# Altium schematic symbol library led_7seg_big.SchLib: 17 symbols
Pins are listed as number, name and electrical type; pins without a type are passive.

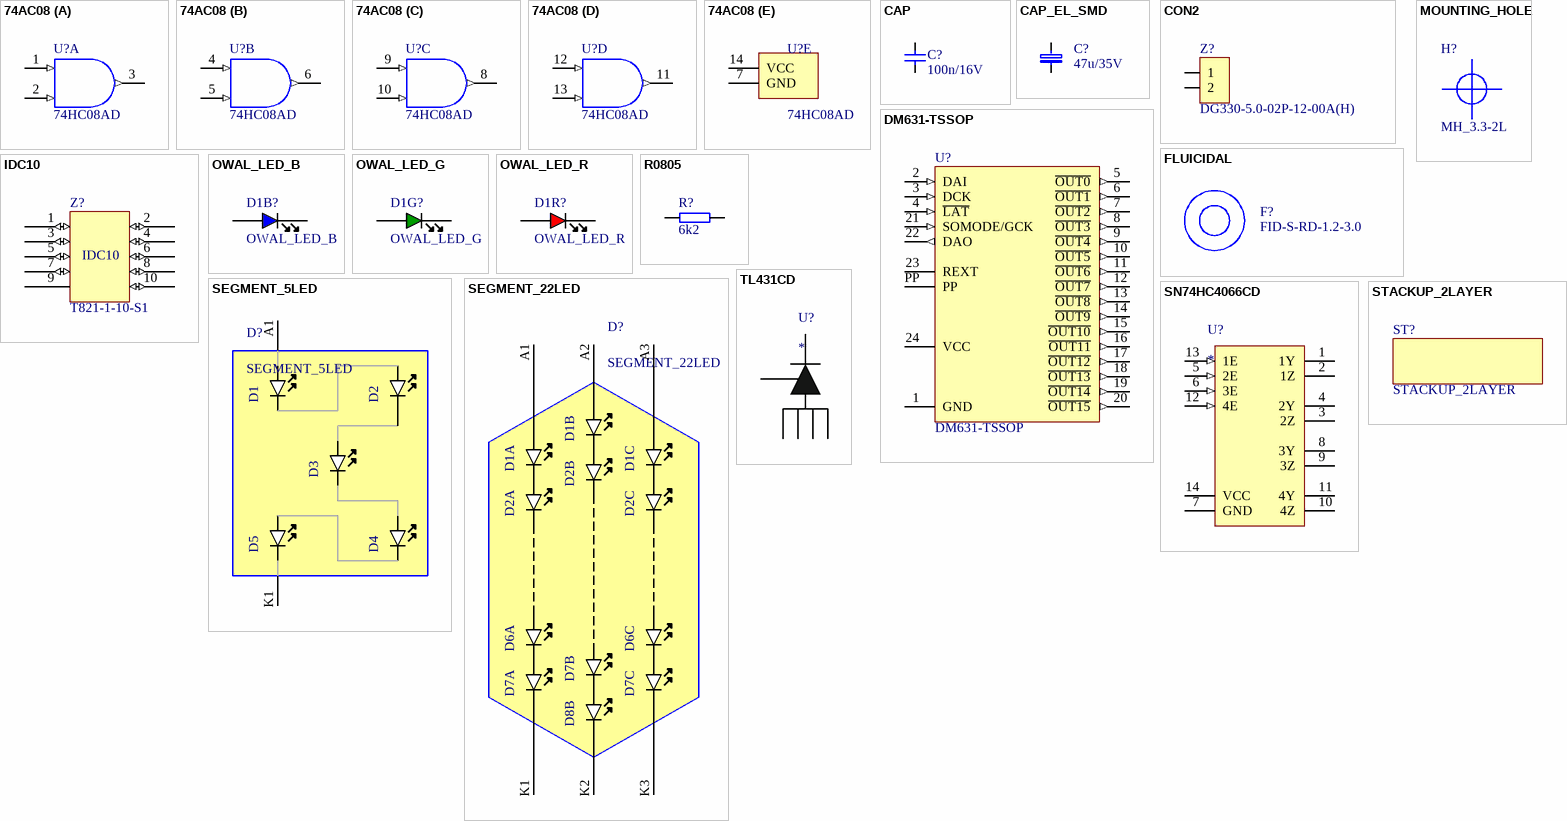
[diagram p0: symbols 74AC08 to TL431CD]

## 74AC08
designator U?, comment 74HC08AD
Quadruple 2-Input Positive-AND Gate
footprint SO14
part A pins: 1 A (in), 2 B (in), 3 Y (out)
part B pins: 4 A (in), 5 B (in), 6 Y (out)
part C pins: 8 Y (out), 9 A (in), 10 B (in)
part D pins: 11 Y (out), 12 A (in), 13 B (in)
part E pins: 7 GND (power), 14 VCC (power)
2 alternate drawings of the same symbol

## CAP
designator C?, comment 100n/16V
footprint 1206
footprint 0603
footprint 0603
footprint 0402
pins: 1, 2

## CAP_EL_SMD
designator C?, comment 47u/35V
Kondensator elektrolityczny 2.5x6.3x11
footprint CAP_V_8.0X12
footprint CAP_SMD_53
footprint CAP_SMD_63
footprint CAP_ESR_UNI
footprint CAP_V_6.3X11
pins: 1, 2

## CON2
designator Z?, comment DG330-5.0-02P-12-00A(H)
Connector
footprint SIP2
footprint WAGO2X2-5
pins: 1, 2

## DM631-TSSOP
designator U?
16-channel Constant Current LED Sink Driver
footprint TSSOP24-TP
pins: 1 GND (power), 2 DAI (in), 3 DCK (in), 4 ~{LAT} (in), 5 ~{OUT0} (out), 6 ~{OUT1} (out), 7 ~{OUT2} (out), 8 ~{OUT3} (out), 9 ~{OUT4} (out), 10 ~{OUT5} (out), 11 ~{OUT6} (out), 12 ~{OUT7} (out), 13 ~{OUT8} (out), 14 ~{OUT9} (out), 15 ~{OUT10} (out), 16 ~{OUT11} (out), 17 ~{OUT12} (out), 18 ~{OUT13} (out), 19 ~{OUT14} (out), 20 ~{OUT15} (out), 21 SOMODE/GCK (in), 22 DAO (out), 23 REXT, 24 VCC (power), PP (power)

## FLUICIDAL
designator F?, comment FID-S-RD-1.2-3.0
PCB FLUICIDAL
footprint FLUICIDAL_1.0-3.0-2L-RC
footprint FLUICIDAL_1.0-3.0-2L-RD
footprint FID-S-RD-1.2-3.0

## IDC10
designator Z?, comment T821-1-10-S1
footprint IDC10
footprint IDC10-WYRZUTNIK
footprint BH10S
pins: 1 (io), 2 (io), 3 (io), 4 (io), 5 (io), 6 (io), 7 (io), 8 (io), 9, 10 (io)

## MOUNTING_HOLE
designator H?, comment MH_3.3-2L
Mounting Hole
footprint MH_3.3-2L
footprint MH_3.2-2L

## OWAL_LED_B
designator D1B?
footprint LED_MTX
pins: A VDD, K LED_R

## OWAL_LED_G
designator D1G?
footprint LED_MTX
pins: A VDD, K LED_R

## OWAL_LED_R
designator D1R?
footprint LED_MTX
pins: A VDD, K LED_R

## R0805
designator R?, comment 6k2
footprint 0603
pins: 1, 2

## SEGMENT_5LED
designator D?
footprint SEGMENT_5LED_V
pins: A1 VDD, K1 LED_R
text: D1; D2; D3; D5; D4

## SEGMENT_22LED
designator D?
footprint SEGMENT_22LED_H
footprint SEGMENT_22LED_V
pins: A1 VDD, A2 VDD, A3 VDD, K1 LED_R, K2 LED_R, K3 LED_R
text: D1B; D1A; D1C; D2B; D2A; D2C; D6A; D6C; D7B; D7A; D7C; D8B

## SN74HC4066CD
designator U?
footprint SO14
pins: 1 1Y, 2 1Z, 3 2Z, 4 2Y, 5 2E (in), 6 3E (in), 7 GND (power), 8 3Y, 9 3Z, 10 4Z, 11 4Y, 12 4E (in), 13 1E (in), 14 VCC (power)

## STACKUP_2LAYER
designator ST?
STACKUP 2 LAYER
footprint STACKUP_2LAYER

## TL431CD
designator U?
REF
footprint SO8
pins: 1 C, 2 A, 3 A, 6 A, 7 A, 8 REF